# EAGLE library part AT89C55 (library atmel89cxxxx)
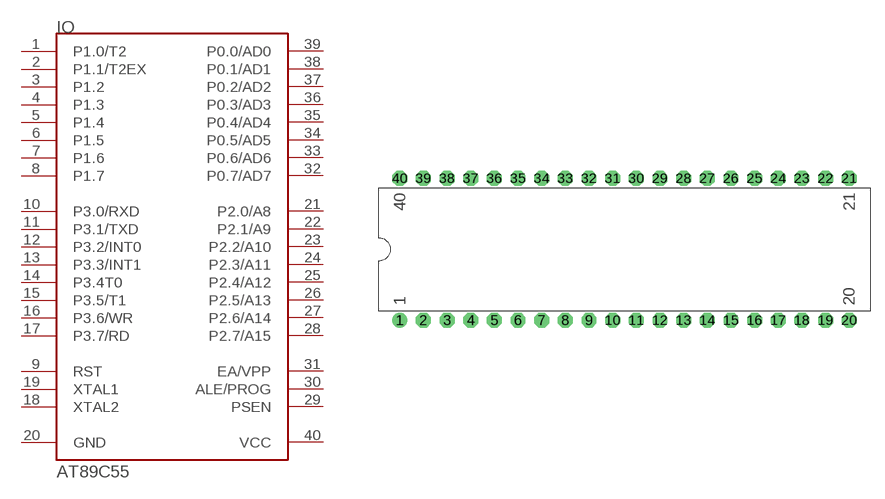
[diagram p4: symbol with the pads of PDIP40; footprint PDIP40]

Designator prefix IO

## AT89C55  [PDIP40]
1  P1.0/T2
2  P1.1/T2EX
3  P1.2
4  P1.3
5  P1.4
6  P1.5
7  P1.6
8  P1.7
9  RST
10  P3.0/RXD
11  P3.1/TXD
12  P3.2/INT0
13  P3.3/INT1
14  P3.4T0
15  P3.5/T1
16  P3.6/WR
17  P3.7/RD
18  XTAL2
19  XTAL1
20  GND  pwr
21  P2.0/A8
22  P2.1/A9
23  P2.2/A10
24  P2.3/A11
25  P2.4/A12
26  P2.5/A13
27  P2.6/A14
28  P2.7/A15
29  PSEN
30  ALE/PROG
31  EA/VPP
32  P0.7/AD7
33  P0.6/AD6
34  P0.5/AD5
35  P0.4/AD4
36  P0.3/AD3
37  P0.2/AD2
38  P0.1/AD1
39  P0.0/AD0
40  VCC  pwr

## Footprint PDIP40 (pad centres in mm)
drill 0.813 pad 1.6 round: 1 -19.05,-7.62
drill 0.813 pad 1.6 octagon: 2 -16.51,-7.62; 3 -13.97,-7.62; 4 -11.43,-7.62; 5 -8.89,-7.62; 6 -6.35,-7.62; 7 -3.81,-7.62; 8 -1.27,-7.62; 9 1.27,-7.62; 10 3.81,-7.62; 11 6.35,-7.62; 12 8.89,-7.62; 13 11.43,-7.62; 14 13.97,-7.62; 15 16.51,-7.62; 16 19.05,-7.62; 17 21.59,-7.62; 18 24.13,-7.62; 19 26.67,-7.62; 20 29.21,-7.62; 21 29.21,7.62; 22 26.67,7.62; 23 24.13,7.62; 24 21.59,7.62; 25 19.05,7.62; 26 16.51,7.62; 27 13.97,7.62; 28 11.43,7.62; 29 8.89,7.62; 30 6.35,7.62; 31 3.81,7.62; 32 1.27,7.62; 33 -1.27,7.62; 34 -3.81,7.62; 35 -6.35,7.62; 36 -8.89,7.62; 37 -11.43,7.62; 38 -13.97,7.62; 39 -16.51,7.62; 40 -19.05,7.62